# Altium footprint library LXDbig1.PcbLib: 17 footprints (part 1 of 2)
Each footprint in its own frame and in the unit in brackets; x right, y up, seen from the top. Pads: shape width x height; smd on the part's side, far side on the other; paste and mask are expansions set on the pad; w line width, h text height; cw(c..) or ccw(c..) is an arc to the next point about the centre after c.
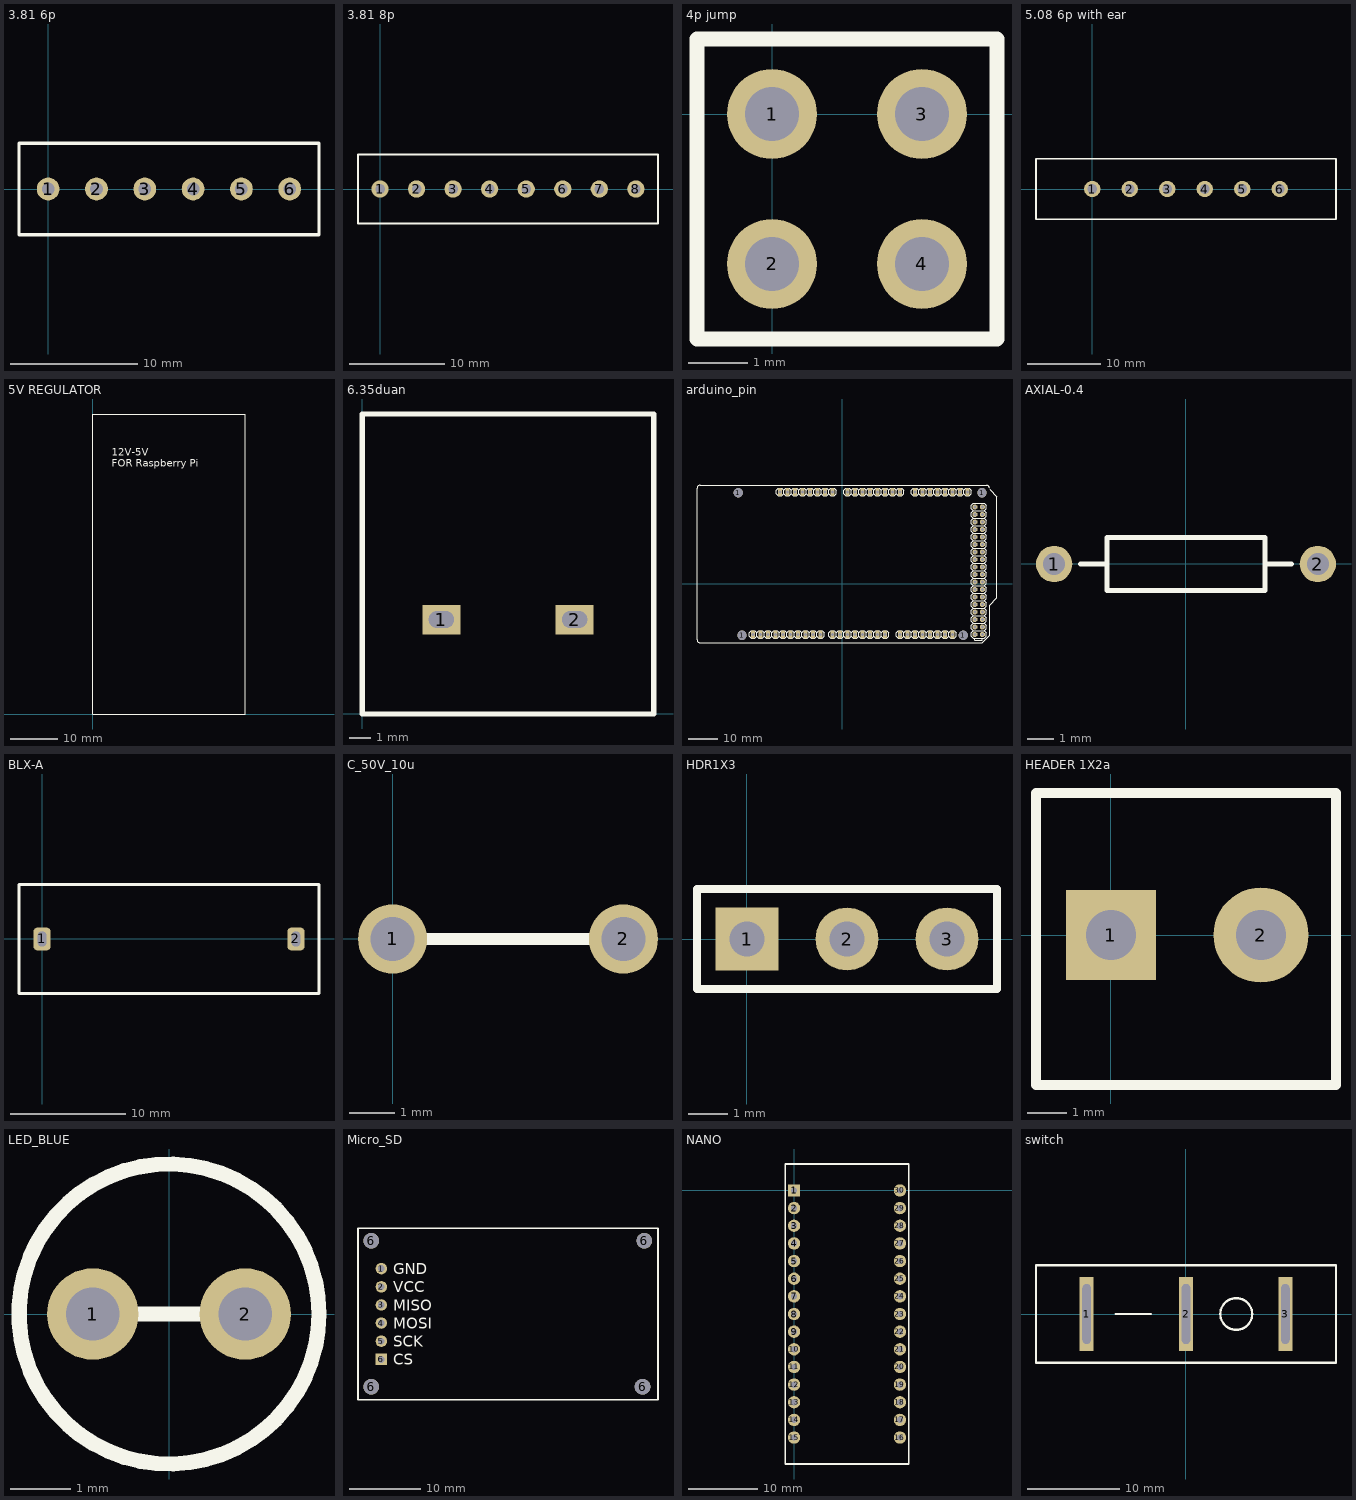
[diagram p0: the footprints below, top view; thin cyan lines are the x and y axes]

## 3.81 6p [mm]
pads (6):
  round 1.8 hole 1: 1(0,0)
  round 1.8 hole 1 unplated: 2(3.81,0) 3(7.62,0) 4(11.43,0) 5(15.24,0) 6(19.05,0)
Top Overlay:
  lines w0.254: -2.3,-3.6 21.36,-3.6 21.36,3.6 -2.3,3.6 -2.3,-3.6

## 3.81 8p [mm]
pads (8):
  round 1.8 hole 1: 1(0,0) 2(3.81,0) 3(7.62,0) 4(11.43,0) 5(15.24,0) 6(19.05,0) 7(22.86,0) 8(26.67,0)
Top Overlay:
  lines w0.254: 28.956,-3.6 -2.3,-3.6 -2.3,3.6 28.98,3.6 28.98,-3.6

## 4p jump [mil]
pads (4):
  round 60 hole 36: 1(0,0) 2(0,-100) 3(100,0) 4(100,-100)
Top Overlay:
  lines w10: -50,-150 150,-150 150,50 -50,50 -50,-150

## 5.08 6p with ear [mm]
pads (6):
  round 2.2 hole 1.3: 1(0,0) 2(5.08,0) 3(10.16,0) 4(15.24,0) 5(20.32,0) 6(25.4,0)
Top Overlay:
  lines w0.254: -7.62,-4.1 -7.62,4.1 33.02,4.1 33.02,-4.1 -7.62,-4.1

## 5V REGULATOR [mil]
height 181.1
Top Overlay:
  lines w10: 0,0 1259.84,0 1259.84,2480.32 0,2480.32 0,0
  text "12V-5V / FOR Raspberry Pi" at 155,2045 h60

## 6.35duan [mm]
height 4.6
pads (2):
  rect 1.8x1.4 hole 0.8 slot 1.2 at 0 deg: 1(3.775,4.5) 2(10.125,4.5)
Top Overlay:
  lines w0.254: 0,0 0,14.3 13.9,14.3 13.9,0 0,0

## arduino_pin [mil]
height 74.8
pads (90):
  round 126 hole 126: 1(-1385,1215) 1(-1335,-685) 1(1615,-685) 1(1865,1215)
  oval 56x112 hole 39: 1(-1190,-675) 1(-830,1225) 1(70,1225) 1(570,-675) 1(970,1225) 1(1470,-675) 2(-1090,-675) 2(-730,1225) 2(170,1225) 2(470,-675) 2(1070,1225) 2(1370,-675) 3(-990,-675) 3(-630,1225) 3(270,1225) 3(370,-675) 3(1170,1225) 3(1270,-675) 4(-890,-675) 4(-530,1225) 4(270,-675) 4(370,1225) 4(1170,-675) 4(1270,1225) 5(-790,-675) 5(-430,1225) 5(170,-675) 5(470,1225) 5(1070,-675) 5(1370,1225) 6(-690,-675) 6(-330,1225) 6(70,-675) 6(570,1225) 6(970,-675) 6(1470,1225) 7(-590,-675) 7(-230,1225) 7(-30,-675) 7(670,1225) 7(870,-675) 7(1570,1225) 8(-490,-675) 8(-130,-675) 8(-130,1225) 8(770,-675) 8(770,1225) 8(1670,1225) 9(-390,-675) 10(-290,-675)
  oct 66x66 hole 38: 1(1770,-675) 2(1870,-675) 3(1770,-575) 4(1870,-575) 5(1770,-475) 6(1870,-475) 7(1770,-375) 8(1870,-375) 9(1770,-275) 10(1870,-275) 11(1770,-175) 12(1870,-175) 13(1770,-75) 14(1870,-75) 15(1770,25) 16(1870,25) 17(1770,125) 18(1870,125) 19(1770,225) 20(1870,225) 21(1770,325) 22(1870,325) 23(1770,425) 24(1870,425) 25(1770,525) 26(1870,525) 27(1770,625) 28(1870,625) 29(1770,725) 30(1870,725) 31(1770,825) 32(1870,825) 33(1770,925) 34(1870,925) 35(1770,1025) 36(1870,1025)
Top Overlay:
  drawing of 497 lines, arcs and shapes, not listed
Mechanical 16:
  region: -120,-665 -140,-665 -140,-685 -120,-685
  region: 580,-665 560,-665 560,-685 580,-685
  region: 480,-665 460,-665 460,-685 480,-685
  region: 380,-665 360,-665 360,-685 380,-685
  region: 280,-665 260,-665 260,-685 280,-685
  region: 180,-665 160,-665 160,-685 180,-685
  region: 80,-665 60,-665 60,-685 80,-685
  region: -20,-665 -40,-665 -40,-685 -20,-685
  rectangle: 760,1215 780,1235
  rectangle: 60,1215 80,1235
  rectangle: 160,1215 180,1235
  rectangle: 260,1215 280,1235
  rectangle: 360,1215 380,1235
  rectangle: 460,1215 480,1235
  rectangle: 560,1215 580,1235
  rectangle: 660,1215 680,1235
  region: 780,-665 760,-665 760,-685 780,-685
  region: 1480,-665 1460,-665 1460,-685 1480,-685
  region: 1380,-665 1360,-665 1360,-685 1380,-685
  region: 1280,-665 1260,-665 1260,-685 1280,-685
  region: 1180,-665 1160,-665 1160,-685 1180,-685
  region: 1080,-665 1060,-665 1060,-685 1080,-685
  region: 980,-665 960,-665 960,-685 980,-685
  region: 880,-665 860,-665 860,-685 880,-685
  rectangle: 1660,1215 1680,1235
  rectangle: 960,1215 980,1235
  rectangle: 1060,1215 1080,1235
  rectangle: 1160,1215 1180,1235
  rectangle: 1260,1215 1280,1235
  rectangle: 1360,1215 1380,1235
  rectangle: 1460,1215 1480,1235
  rectangle: 1560,1215 1580,1235
  region: 1780,1015 1780,1035 1760,1035 1760,1015
  region: 1880,1015 1880,1035 1860,1035 1860,1015
  region: 1780,915 1780,935 1760,935 1760,915
  region: 1880,915 1880,935 1860,935 1860,915
  region: 1780,815 1780,835 1760,835 1760,815
  region: 1880,815 1880,835 1860,835 1860,815
  region: 1780,715 1780,735 1760,735 1760,715
  region: 1880,715 1880,735 1860,735 1860,715
  region: 1780,615 1780,635 1760,635 1760,615
  region: 1880,615 1880,635 1860,635 1860,615
  region: 1780,515 1780,535 1760,535 1760,515
  region: 1880,515 1880,535 1860,535 1860,515
  region: 1780,415 1780,435 1760,435 1760,415
  region: 1880,415 1880,435 1860,435 1860,415
  region: 1780,315 1780,335 1760,335 1760,315
  region: 1880,315 1880,335 1860,335 1860,315
  region: 1780,215 1780,235 1760,235 1760,215
  region: 1880,215 1880,235 1860,235 1860,215
  region: 1780,115 1780,135 1760,135 1760,115
  region: 1880,115 1880,135 1860,135 1860,115
  region: 1780,15 1780,35 1760,35 1760,15
  region: 1880,15 1880,35 1860,35 1860,15
  region: 1780,-85 1780,-65 1760,-65 1760,-85
  region: 1880,-85 1880,-65 1860,-65 1860,-85
  region: 1780,-185 1780,-165 1760,-165 1760,-185
  region: 1780,-285 1780,-265 1760,-265 1760,-285
  region: 1780,-385 1780,-365 1760,-365 1760,-385
  region: 1880,-185 1880,-165 1860,-165 1860,-185
  region: 1880,-285 1880,-265 1860,-265 1860,-285
  region: 1880,-385 1880,-365 1860,-365 1860,-385
  region: 1780,-485 1780,-465 1760,-465 1760,-485
  region: 1880,-485 1880,-465 1860,-465 1860,-485
  region: 1780,-585 1780,-565 1760,-565 1760,-585
  region: 1880,-585 1880,-565 1860,-565 1860,-585
  region: 1880,-685 1880,-665 1860,-665 1860,-685
  region: 1780,-685 1780,-665 1760,-665 1760,-685
  rectangle: -300,-685 -280,-665
  rectangle: -1200,-685 -1180,-665
  rectangle: -1100,-685 -1080,-665
  rectangle: -1000,-685 -980,-665
  rectangle: -900,-685 -880,-665
  rectangle: -800,-685 -780,-665
  rectangle: -700,-685 -680,-665
  rectangle: -600,-685 -580,-665
  rectangle: -500,-685 -480,-665
  rectangle: -400,-685 -380,-665
  rectangle: -140,1215 -120,1235
  rectangle: -840,1215 -820,1235
  rectangle: -740,1215 -720,1235
  rectangle: -640,1215 -620,1235
  rectangle: -540,1215 -520,1235
  rectangle: -440,1215 -420,1235
  rectangle: -340,1215 -320,1235
  rectangle: -240,1215 -220,1235

## AXIAL-0.4 [mm] "Axial Device, Thru-Hole; 2 Leads; 0.4 in Pin Spacing"
height 2.032
pads (2):
  round 1.4 hole 0.85: 1(-5.08,0) 2(5.08,0)
Top Overlay:
  lines w0.2: -4.064,0 -3.048,0 ; 3.048,0 4.064,0 ; -3.048,-1.016 3.048,-1.016 3.048,1.016 -3.048,1.016 -3.048,-1.016

## BLX-A [mm]
height 4.6
pads (2):
  rrect50% 1.5x2 hole 0.762 slot 1.3 at 90 deg: 1(0,0) 2(22,0)
Top Overlay:
  lines w0.254: -2,-4.74 -2,0 -2,4.74 24,4.74 24,0 24,-4.74 -2,-4.74

## C_50V_10u [mil]
height 80
pads (2):
  round 60 hole 38: 1(0,0) 2(200,0)
Top Overlay:
  lines w10: 0,0 200,0

## HDR1X3 [mm] "Connector; Header; 3 Position"
height 4.6
pads (3):
  rect 1.6x1.6 hole 0.9: 1(0,0)
  round 1.6 hole 0.9: 2(2.54,0) 3(5.08,0)
Top Overlay:
  lines w0.2: -1.27,-1.27 6.35,-1.27 6.35,1.27 -1.27,1.27 -1.27,-1.27

## HEADER 1X2a [mil]
height 181.1
pads (2):
  rect 90x90 hole 50: 1(0,0)
  round 95 hole 50: 2(150,0)
Top Overlay:
  lines w10: -74.8,-149.6 -74.8,141.73 225,141.73 225,-149.6 -74.8,-149.6

## LED_BLUE [mil]
height 80
pads (2):
  round 60 hole 35: 1(-50,0) 2(50,0)
Top Overlay:
  circle w10: c0,0 r98.43
  lines w10: -50,0 50,0

## Micro_SD [mm]
height 4.6
pads (10):
  round 1.6 hole 0.965: 1(-62.738,60.35) 2(-62.738,57.81) 3(-62.738,55.27) 4(-62.738,52.73) 5(-62.738,50.19)
  round 2.2 hole 2.2: 6(-64.135,43.815) 6(-64.135,64.262) 6(-26.162,43.815) 6(-25.908,64.262)
  rect 1.6x1.6 hole 0.965: 6(-62.738,47.65)
Top Overlay:
  lines w0.254: -66,42 -66,66 -24,66 -24,42 -66,42
  text "GND" at -61.087,59.563 h1.52
  text "VCC" at -61.087,57.023 h1.52
  text "MISO" at -61.087,54.483 h1.52
  text "MOSI" at -61.087,51.943 h1.52
  text "SCK" at -61.087,49.403 h1.52
  text "CS" at -61.087,46.863 h1.52

## NANO [mil]
height 181.1
pads (30):
  rect 70x70 hole 36: 1(0,0)
  round 70 hole 36: 2(0,-100) 3(0,-200) 4(0,-300) 5(0,-400) 6(0,-500) 7(0,-600) 8(0,-700) 9(0,-800) 10(0,-900) 11(0,-1000) 12(0,-1100) 13(0,-1200) 14(0,-1300) 15(0,-1400) 16(600,-1400) 17(600,-1300) 18(600,-1200) 19(600,-1100) 20(600,-1000) 21(600,-900) 22(600,-800) 23(600,-700) 24(600,-600) 25(600,-500) 26(600,-400) 27(600,-300) 28(600,-200) 29(600,-100) 30(600,0)
Top Overlay:
  lines w10: -50,-1550 -50,150 650,150 650,-1400 650,-1550 -50,-1550

## switch [mm]
height 2.032
pads (3):
  rect 1.524x8 hole 0.9 slot 6.5 at 90 deg: 1(-10.8,0) 2(0,0) 3(10.8,0)
Top Overlay:
  circle w0.254: c5.461,0 r1.727
  lines w0.254: -7.62,0 -3.81,0 ; -16.3,-5.3 -16.3,5.3 0,5.3 16.3,5.3 16.3,-5.3 0,-5.3 -16.3,-5.3